# EAGLE library part BTDR-3 (library mb3_integrated circuits)
Reverb BTDR-3H: http://smallbear-electronics.mybigcommerce.com/belton-btdr-3h-reverb-modules/
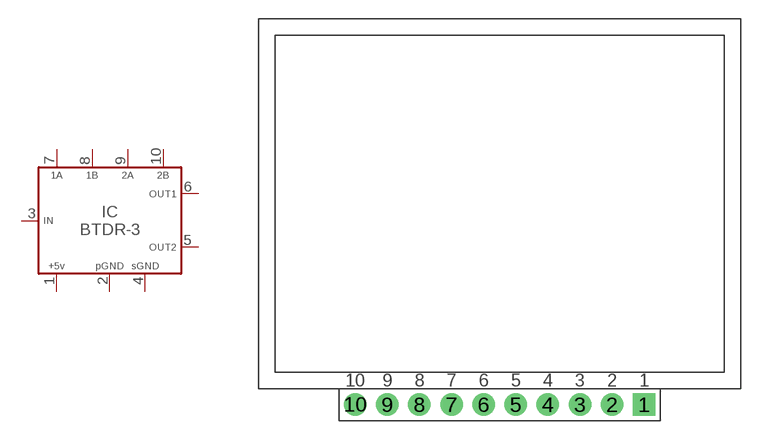
[diagram p27: symbol with the pads of BTDR-3; footprint BTDR-3]

Designator prefix IC

## BTDR-3  [BTDR-3]
1  1
2  2
3  3
4  4
5  5
6  6
7  7
8  8
9  9
10  10

## Footprint BTDR-3 (pad centres in mm)
drill 1 pad 1.778 square: 1 11.43,-15.875
drill 1 pad 1.778: 2 8.89,-15.875; 3 6.35,-15.875; 4 3.81,-15.875; 5 1.27,-15.875; 6 -1.27,-15.875; 7 -3.81,-15.875; 8 -6.35,-15.875; 9 -8.89,-15.875; 10 -11.43,-15.875